# EAGLE library part TPSM53603RDAR (library TPSM53603RDAR)
Non-Isolated PoL Module DC DC Converter 1 Output 1 ~ 7V 3A 3.8V - 36V Input Check prices <https://pricing.snapeda.com/parts/TPSM53603RDAR/Texas%20Instruments/view-part?ref=eda>
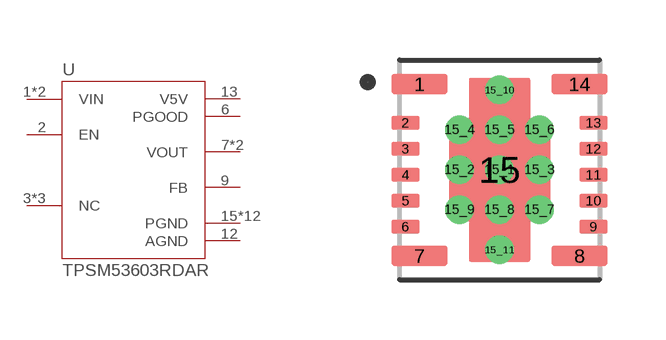
[diagram p0: symbol with the pads of IC_TPSM53603RDAR; footprint IC_TPSM53603RDAR]

Designator prefix U

## TPSM53603RDAR (Availability: Warning; Description: 36-V, 3-A step-down power module in small 5.5 x 5 x 4 mm RLF QFN package with simple footprint 15-B3QFN -40 to 125; MF: Texas Instruments; MP: TPSM53603RDAR; Package: B3QFN-15 Texas Instruments; Price: None; Purchase-URL: https://pricing.snapeda.com/search/part/TPSM53603RDAR/?ref=eda)  [IC_TPSM53603RDAR]
1  VIN  in
2  EN  in
3  NC  pas
6  PGOOD  out
7  VOUT  out
8  VOUT  out
9  FB  in
10  NC  pas
11  NC  pas
12  AGND  pwr
13  V5V  out
14  VIN  in
15  PGND  pwr
15_1  PGND  pwr
15_2  PGND  pwr
15_3  PGND  pwr
15_4  PGND  pwr
15_5  PGND  pwr
15_6  PGND  pwr
15_7  PGND  pwr
15_8  PGND  pwr
15_9  PGND  pwr
15_10  PGND  pwr
15_11  PGND  pwr

## Footprint IC_TPSM53603RDAR (pad centres in mm)
smd 1.4 x 0.5: 1 -2,2.145; 7 -2,-2.155; 8 2,-2.155; 14 2,2.145
smd 0.7 x 0.35: 2 -2.35,1.17; 3 -2.35,0.52; 4 -2.35,-0.13; 5 -2.35,-0.78; 6 -2.35,-1.43; 9 2.35,-1.43; 10 2.35,-0.78; 11 2.35,-0.13; 12 2.35,0.52; 13 2.35,1.17
smd 1 x 1: 15 0,0
drill 0.2 pad 0.4: 15_1 0,0; 15_2 -1,0; 15_3 1,0; 15_4 -1,1; 15_5 0,1; 15_6 1,1; 15_7 1,-1; 15_8 0,-1; 15_9 -1,-1; 15_10 0,2; 15_11 0,-2